# Altium footprint library PCB - CONNECTORS - MOLEX - Picoblade 10p.PcbLib: 1 footprints
Each footprint in its own frame and in the unit in brackets; x right, y up, seen from the top. Pads: shape width x height; smd on the part's side, far side on the other; paste and mask are expansions set on the pad; w line width, h text height; cw(c..) or ccw(c..) is an arc to the next point about the centre after c.
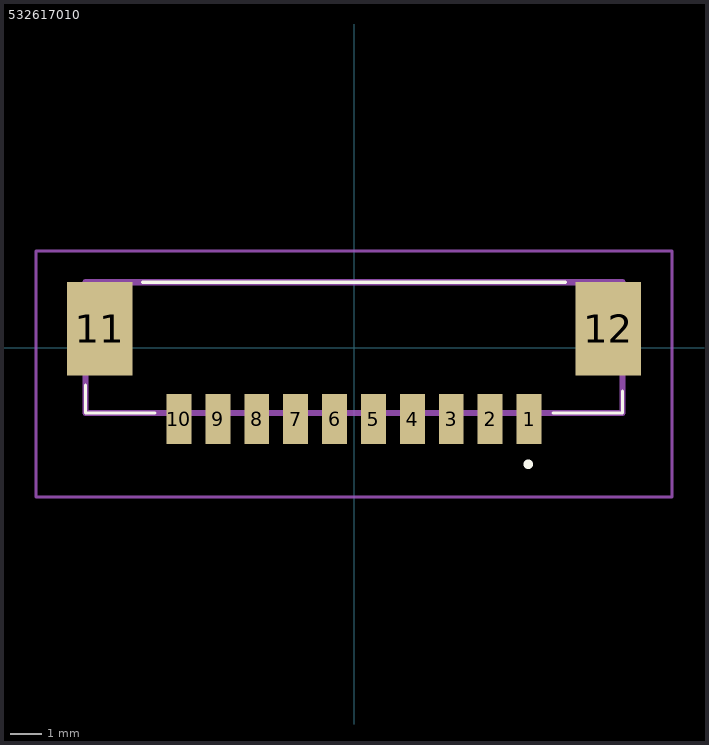
[diagram p0: the footprint, top view; thin cyan lines are the x and y axes]

## 532617010 [mm]
pads (12):
  rect 0.8x1.6 smd: 1(5.625,-2.3) 2(4.375,-2.3) 3(3.125,-2.3) 4(1.875,-2.3) 5(0.625,-2.3) 6(-0.625,-2.3) 7(-1.875,-2.3) 8(-3.125,-2.3) 9(-4.375,-2.3) 10(-5.625,-2.3)
  rect 2.1x3 smd: 11(-8.175,0.6) 12(8.175,0.6)
Top Overlay:
  lines w0.1: -8.625,-2.1 -8.625,-1.2 -8.625,-2.1 ; -8.625,-2.1 -6.4,-2.1 -8.625,-2.1 ; 8.625,-2.1 6.4,-2.1 8.625,-2.1 ; 8.625,-2.1 8.625,-1.4 8.625,-2.1 ; -6.8,2.1 6.8,2.1 -6.8,2.1
  lines w0.2: 5.6,-3.8 cw(c5.6,-3.75) 5.6,-3.7 ; 5.6,-3.8 ccw(c5.6,-3.75) 5.6,-3.7 ; 5.6,-3.8 cw(c5.6,-3.75) 5.6,-3.7
Mechanical 13:
  lines w0.2: -8.625,-2.1 8.625,-2.1 8.625,2.1 -8.625,2.1 -8.625,-2.1
Mechanical 15:
  lines w0.1: -10.225,-4.8 10.225,-4.8 10.225,3.1 -10.225,3.1 -10.225,-4.8
3D body "53261-7010.stp": height 3.5, standoff 0, extent -9.015,-3.02 9.015,2.1